# Altium footprint library CON_Vertical 10X2_Ribbon.PcbLib: 1 footprints
Each footprint in its own frame and in the unit in brackets; x right, y up, seen from the top. Pads: shape width x height; smd on the part's side, far side on the other; paste and mask are expansions set on the pad; w line width, h text height; cw(c..) or ccw(c..) is an arc to the next point about the centre after c.
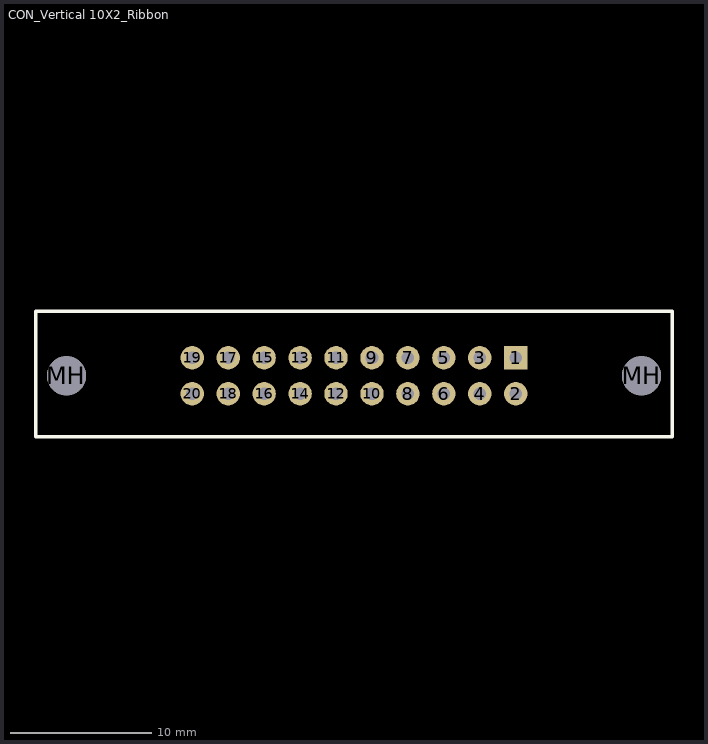
[diagram p0: the footprint, top view; thin cyan lines are the x and y axes]

## CON_Vertical 10X2_Ribbon [mil] "20 Pin Ribbon Connector"
pads (22):
  rect 65x65 hole 35: 1(-24305,-23535)
  round 65 hole 35: 2(-24305,-23635) 3(-24405,-23535) 4(-24405,-23635) 5(-24505,-23535) 6(-24505,-23635) 7(-24605,-23535) 8(-24605,-23635) 9(-24705,-23535) 10(-24705,-23635) 11(-24805,-23535) 12(-24805,-23635) 13(-24905,-23535) 14(-24905,-23635) 15(-25005,-23535) 16(-25005,-23635) 17(-25105,-23535) 18(-25105,-23635) 19(-25205,-23535) 20(-25205,-23635)
  round 109 hole 109: MH(-25555,-23585) MH(-23955,-23585)
Top Overlay:
  lines w10: -25640,-23755 -25640,-23405 -23870,-23405 -23870,-23755 -25640,-23755
3D body: height 918.81, standoff -107.09, extent -25634.92,-23764.13 -23875.08,-23417.67